# Altium schematic symbol library CD4066BM.Schlib: 1 symbol
Pins are listed as number, name and electrical type; pins without a type are passive.

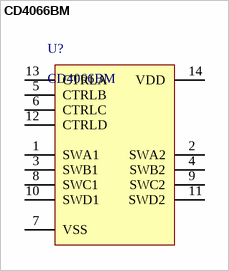
[diagram p0: symbol CD4066BM]

## CD4066BM
designator U?
Bilateral, FET Switches 1 x 1:1 14-SOIC
pins: 1 SWA1, 2 SWA2, 3 SWB1, 4 SWB2, 5 CTRLB, 6 CTRLC, 7 VSS, 8 SWC1, 9 SWC2, 10 SWD1, 11 SWD2, 12 CTRLD, 13 CTRLA, 14 VDD